# Altium footprint library Diode.PcbLib: 4 footprints
Each footprint in its own frame and in the unit in brackets; x right, y up, seen from the top. Pads: shape width x height; smd on the part's side, far side on the other; paste and mask are expansions set on the pad; w line width, h text height; cw(c..) or ccw(c..) is an arc to the next point about the centre after c.
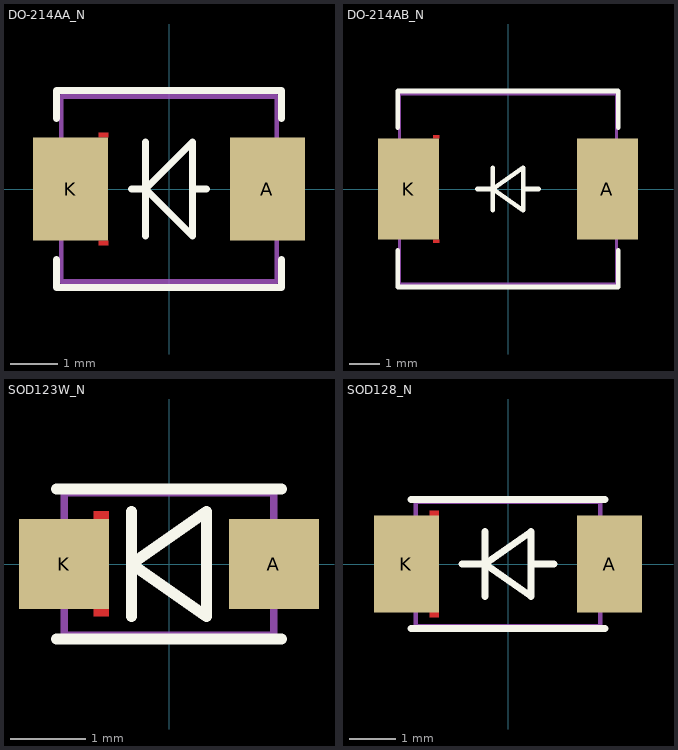
[diagram p0: the footprints below, top view; thin cyan lines are the x and y axes]

## DO-214AA_N [mm] "DO-214AA (SMB), 3.95x4.6mm Body, 5.6mm Lead Span, IPC Medium Density"
height 2.65
pads (2):
  rect 1.6x2.2 smd: A(2.1,0) K(-2.1,0)
Top Layer:
  region: -1.5,1.1 -1.5,1.2 -1.3,1.2 -1.3,1.1
  region: -1.5,-1.1 -1.5,-1.2 -1.3,-1.2 -1.3,-1.1
Top Overlay:
  lines w0.15: -2.4,-1.5 -2.4,-2.1 2.4,-2.1 2.4,-1.5 ; -2.4,1.5 -2.4,2.1 2.4,2.1 2.4,1.5 ; -0.8,0 -0.5,0 ; -0.5,-1 -0.5,1 ; 0.5,0 0.8,0 ; -0.5,0 0.5,-1 0.5,1 ; -0.5,0 -0.5,0 ; -0.5,0 0.5,1 ; 0.5,1 0.5,1
Mechanical 13:
  lines w0.1: -2.3,-1.975 -2.3,1.975 2.3,1.975 2.3,-1.975 -2.3,-1.975
3D body: height 2.65, standoff 0.2, extent -2.3,-1.975 2.3,1.975

## DO-214AB_N [mm] "DO-214AB (SMC), 6.2x7.1mm Body, 8.1mm Lead Span, IPC Medium Density"
height 2.6
pads (2):
  rect 2x3.3 smd: A(3.25,0) K(-3.25,0)
Top Layer:
  region: -2.45,1.65 -2.45,1.75 -2.25,1.75 -2.25,1.65
  region: -2.45,-1.65 -2.45,-1.75 -2.25,-1.75 -2.25,-1.65
Top Overlay:
  lines w0.15: -3.6,-2 -3.6,-3.2 3.6,-3.2 3.6,-2 ; -3.6,2 -3.6,3.2 3.6,3.2 3.6,2 ; -1,0 -0.5,0 ; -0.5,-0.7 -0.5,0.7 ; 0.5,0 1,0 ; -0.5,0 0.5,0.7 0.5,-0.7 -0.5,0
Mechanical 13:
  lines w0.1: -3.55,-3.1 -3.55,3.1 3.55,3.1 3.55,-3.1 -3.55,-3.1
3D body: height 2.6, standoff 0.2, extent -3.55,-3.1 3.55,3.1

## SOD123W_N [mm] "SOD123W, 2.8x1.9mm Body, 3.7mm Lead Span, IPC Medium Density"
height 1.1
pads (2):
  rect 1.2x1.2 smd: A(1.4,0) K(-1.4,0)
Top Layer:
  region: -1,-0.6 -1,-0.7 -0.8,-0.7 -0.8,-0.6
  region: -1,0.6 -1,0.7 -0.8,0.7 -0.8,0.6
Top Overlay:
  lines w0.15: -1.5,-1 1.5,-1 ; -1.5,1 1.5,1 ; -0.5,-0.7 -0.5,0.7 ; -0.5,0 0.5,-0.7 0.5,0.7 -0.5,0
Mechanical 13:
  lines w0.1: -1.4,-0.95 1.4,-0.95 1.4,0.95 -1.4,0.95 -1.4,-0.95
3D body: height 1.1, standoff 0, extent -1.4,-0.95 1.4,0.95

## SOD128_N [mm] "SOD128, 4.0x2.7mm Body, 5mm Lead Span, IPC Medium Density"
height 1.1
pads (2):
  rect 1.4x2.1 smd: A(2.2,0) K(-2.2,0)
Top Layer:
  region: -1.7,1.05 -1.7,1.15 -1.5,1.15 -1.5,1.05
  region: -1.7,-1.05 -1.7,-1.15 -1.5,-1.15 -1.5,-1.05
Top Overlay:
  lines w0.15: -2.1,-1.4 2.1,-1.4 ; -2.1,1.4 2.1,1.4 ; -1,0 -0.5,0 ; -0.5,-0.7 -0.5,0.7 ; 0.5,0 1,0 ; -0.5,0 0.5,0.7 0.5,-0.7 -0.5,0
Mechanical 13:
  lines w0.1: -2,-1.35 -2,1.35 2,1.35 2,-1.35 -2,-1.35
3D body: height 1.1, standoff 0, extent -2,-1.35 2,1.35